# EAGLE library part FLEX19 (library dec-con)
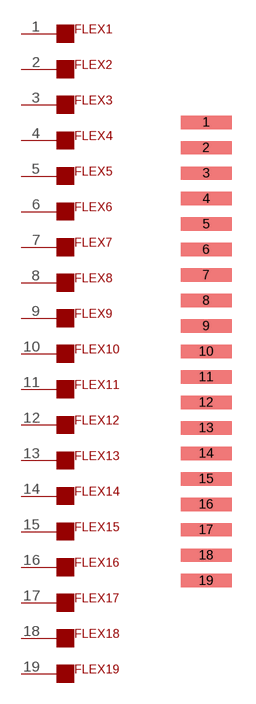
[diagram p27: symbol with the pads of FLEX19; footprint FLEX19]

Designator prefix FLEX; gates 1=FLEX 2=FLEX 3=FLEX 4=FLEX 5=FLEX 6=FLEX 7=FLEX 8=FLEX 9=FLEX 10=FLEX 11=FLEX 12=FLEX 13=FLEX 14=FLEX 15=FLEX 16=FLEX 17=FLEX 18=FLEX 19=FLEX

## FLEX19  [FLEX19]
1  1:1  pas
2  2:1  pas
3  3:1  pas
4  4:1  pas
5  5:1  pas
6  6:1  pas
7  7:1  pas
8  8:1  pas
9  9:1  pas
10  10:1  pas
11  11:1  pas
12  12:1  pas
13  13:1  pas
14  14:1  pas
15  15:1  pas
16  16:1  pas
17  17:1  pas
18  18:1  pas
19  19:1  pas

## Footprint FLEX19 (pad centres in mm)
smd 3.175 x 0.838: 1 0,14.287; 2 0,12.7; 3 0,11.113; 4 0,9.525; 5 0,7.938; 6 0,6.35; 7 0,4.763; 8 0,3.175; 9 0,1.587; 10 0,0; 11 0,-1.587; 12 0,-3.175; 13 0,-4.763; 14 0,-6.35; 15 0,-7.938; 16 0,-9.525; 17 0,-11.113; 18 0,-12.7; 19 0,-14.287